# EAGLE library part 2127-ACCELEROMETER (library co-pololu)
Pololu #2127 - 3D Compass Accelerometer https://www.pololu.com/product/2127
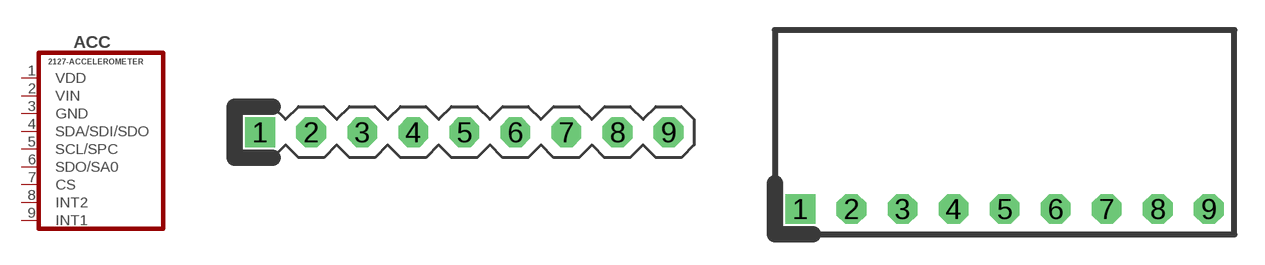
[diagram p1: symbol with the pads of MA09-1; footprints MA09-1, ACCEL-9P-HORIZ]

Designator prefix ACC

## 2127-ACCELEROMETER-VERT (MFR: Pololu; VALUE: 2127)  [MA09-1]
1  VDD
2  VIN
3  GND
4  SDA/SDI/SDO
5  SCL/SPC
6  SDO/SA0
7  CS
8  INT2
9  INT1

## 2127-ACCELEROMETER-HORIZ-CMP-UP (MFR: Pololu; VALUE: 2127)  [ACCEL-9P-HORIZ]
Pads as for MA09-1

## Footprint MA09-1 (pad centres in mm)
PIN HEADER
drill 0.965 square: 1 -10.16,0
drill 0.965 octagon: 2 -7.62,0; 3 -5.08,0; 4 -2.54,0; 5 0,0; 6 2.54,0; 7 5.08,0; 8 7.62,0; 9 10.16,0

## Footprint ACCEL-9P-HORIZ (pad centres in mm)
Pololu 2127 Accelerometer
drill 0.965 square: 1 -10.16,0
drill 0.965 octagon: 2 -7.62,0; 3 -5.08,0; 4 -2.54,0; 5 0,0; 6 2.54,0; 7 5.08,0; 8 7.62,0; 9 10.16,0